# EAGLE library part ADP-2-1+ (library minicircuits)
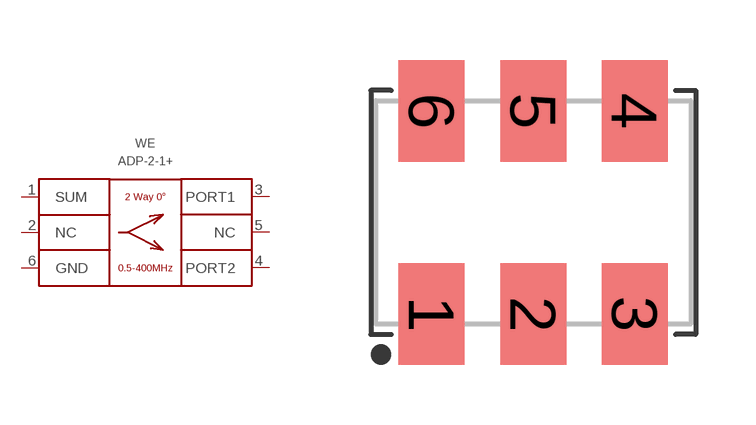
[diagram p1: symbol with the pads of CD636; footprint CD636]

Designator prefix WE

## ADP-2-1+  [CD636]
1  SUM  pas
2  NC  nc
3  PORT1  pas
4  PORT2  pas
5  NC  nc
6  GND  pas

## Footprint CD636 (pad centres in mm)
smd 1.651 x 2.54: 1 -2.54,-2.54; 2 0,-2.54; 3 2.54,-2.54; 4 2.54,2.54; 5 0,2.54; 6 -2.54,2.54